# Altium footprint library AMP Footprints.PcbLib: 903 footprints (part 20 of 58)
Each footprint in its own frame and in the unit in brackets; x right, y up, seen from the top. Pads: shape width x height; smd on the part's side, far side on the other; paste and mask are expansions set on the pad; w line width, h text height; cw(c..) or ccw(c..) is an arc to the next point about the centre after c.
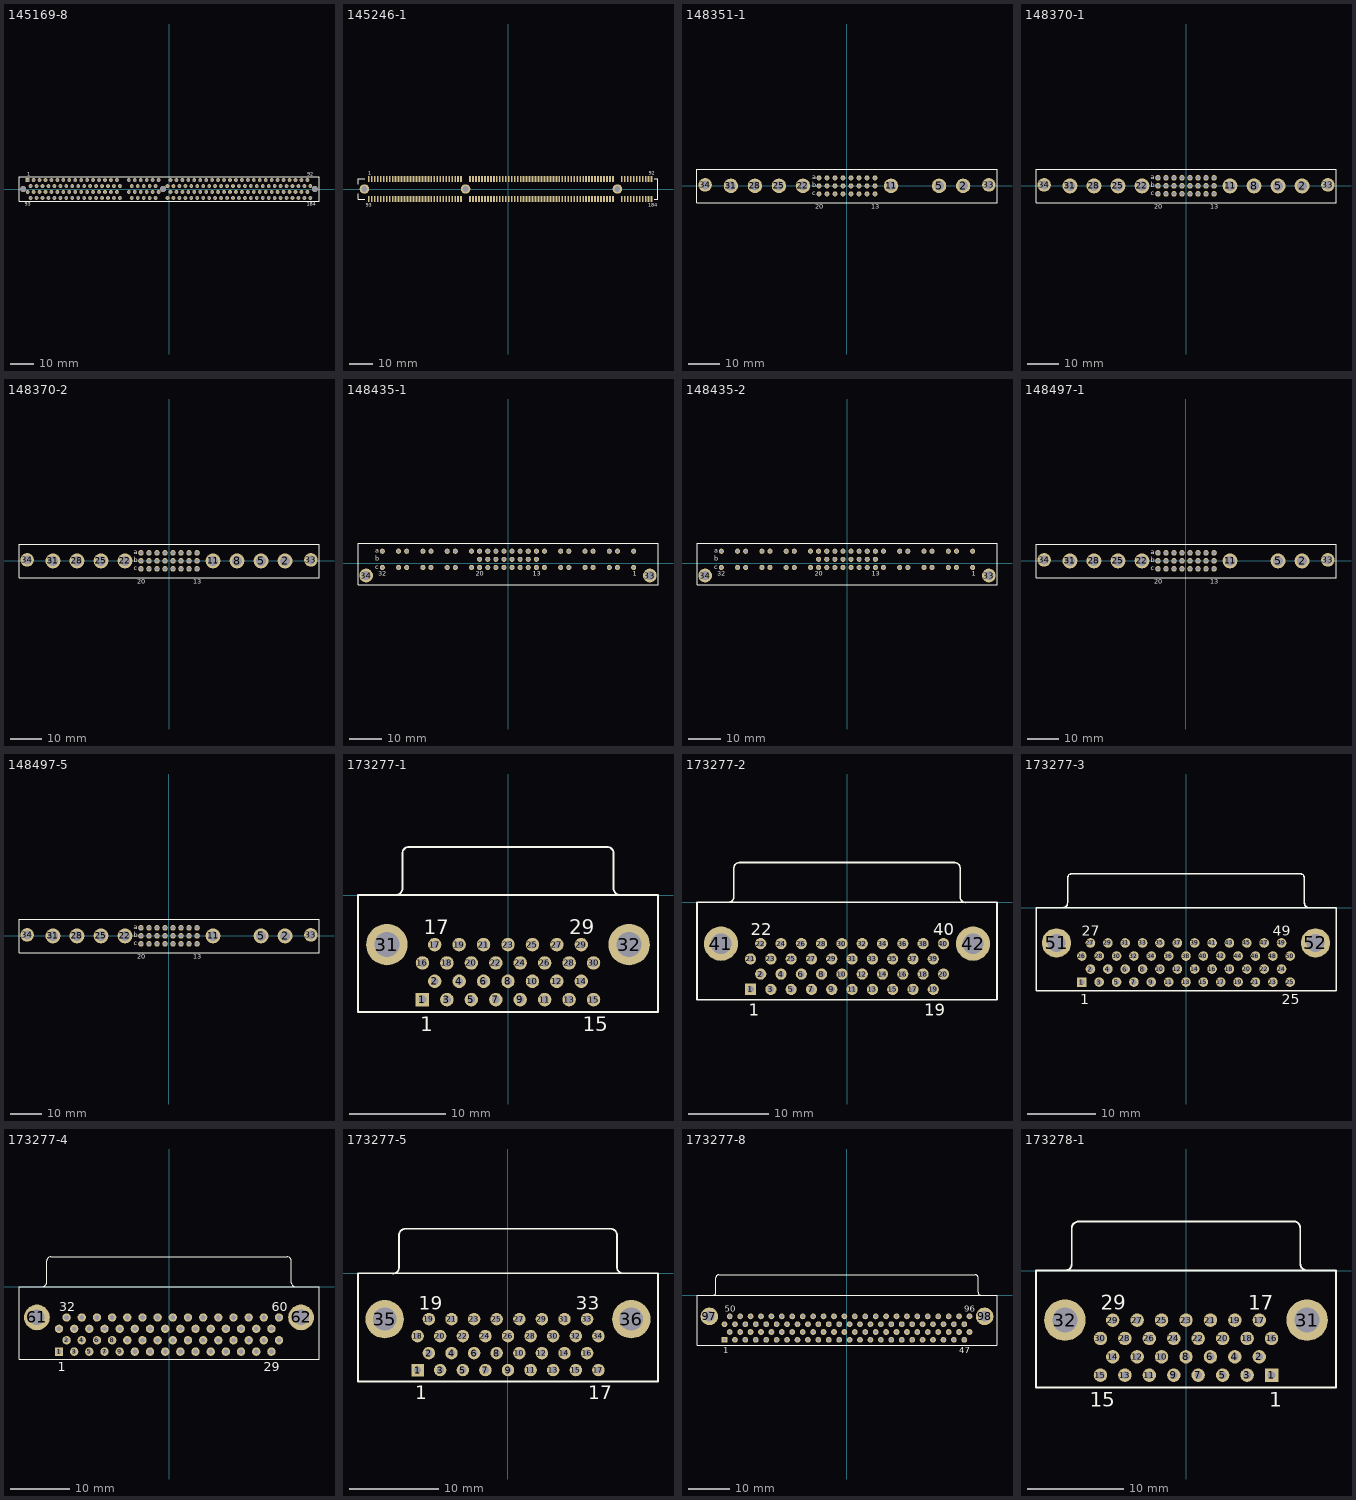
[diagram p19: the footprints below, top view; thin cyan lines are the x and y axes]

## 145169-8 [mm] "Connector; Card Edge .050 Series PCI; 2x92 Position; 64-Bit Bus"
height 15.74
pads (187):
  rect 1.62x1.62 hole 1.02: 1(-60.325,3.81)
  round 1.62 hole 1.02: 2(-59.055,1.27) 3(-57.785,3.81) 4(-56.515,1.27) 5(-55.245,3.81) 6(-53.975,1.27) 7(-52.705,3.81) 8(-51.435,1.27) 9(-50.165,3.81) 10(-48.895,1.27) 11(-47.625,3.81) 12(-46.355,1.27) 13(-45.085,3.81) 14(-43.815,1.27) 15(-42.545,3.81) 16(-41.275,1.27) 17(-40.005,3.81) 18(-38.735,1.27) 19(-37.465,3.81) 20(-36.195,1.27) 21(-34.925,3.81) 22(-33.655,1.27) 23(-32.385,3.81) 24(-31.115,1.27) 25(-29.845,3.81) 26(-28.575,1.27) 27(-27.305,3.81) 28(-26.035,1.27) 29(-24.765,3.81) 30(-23.495,1.27) 31(-22.225,3.81) 32(-20.955,1.27) 33(-17.145,3.81) 34(-15.875,1.27) 35(-14.605,3.81) 36(-13.335,1.27) 37(-12.065,3.81) 38(-10.795,1.27) 39(-9.525,3.81) 40(-8.255,1.27) 41(-6.985,3.81) 42(-5.715,1.27) 43(-4.445,3.81) 44(-0.635,1.27) 45(0.635,3.81) 46(1.905,1.27) 47(3.175,3.81) 48(4.445,1.27) 49(5.715,3.81) 50(6.985,1.27) 51(8.255,3.81) 52(9.525,1.27) 53(10.795,3.81) 54(12.065,1.27) 55(13.335,3.81) 56(14.605,1.27) 57(15.875,3.81) 58(17.145,1.27) 59(18.415,3.81) 60(19.685,1.27) 61(20.955,3.81) 62(22.225,1.27) 63(23.495,3.81) 64(24.765,1.27) 65(26.035,3.81) 66(27.305,1.27) 67(28.575,3.81) 68(29.845,1.27) 69(31.115,3.81) 70(32.385,1.27) 71(33.655,3.81) 72(34.925,1.27) 73(36.195,3.81) 74(37.465,1.27) 75(38.735,3.81) 76(40.005,1.27) 77(41.275,3.81) 78(42.545,1.27) 79(43.815,3.81) 80(45.085,1.27) 81(46.355,3.81) 82(47.625,1.27) 83(48.895,3.81) 84(50.165,1.27) 85(51.435,3.81) 86(52.705,1.27) 87(53.975,3.81) 88(55.245,1.27) 89(56.515,3.81) 90(57.785,1.27) 91(59.055,3.81) 92(60.325,1.27) 93(-60.325,-1.27) 94(-59.055,-3.81) 95(-57.785,-1.27) 96(-56.515,-3.81) 97(-55.245,-1.27) 98(-53.975,-3.81) 99(-52.705,-1.27) 100(-51.435,-3.81) 101(-50.165,-1.27) 102(-48.895,-3.81) 103(-47.625,-1.27) 104(-46.355,-3.81) 105(-45.085,-1.27) 106(-43.815,-3.81) 107(-42.545,-1.27) 108(-41.275,-3.81) 109(-40.005,-1.27) 110(-38.735,-3.81) 111(-37.465,-1.27) 112(-36.195,-3.81) 113(-34.925,-1.27) 114(-33.655,-3.81) 115(-32.385,-1.27) 116(-31.115,-3.81) 117(-29.845,-1.27) 118(-28.575,-3.81) 119(-27.305,-1.27) 120(-26.035,-3.81) 121(-24.765,-1.27) 122(-23.495,-3.81) 123(-22.225,-1.27) 124(-20.955,-3.81) 125(-17.145,-1.27) 126(-15.875,-3.81) 127(-14.605,-1.27) 128(-13.335,-3.81) 129(-12.065,-1.27) 130(-10.795,-3.81) 131(-9.525,-1.27) 132(-8.255,-3.81) 133(-6.985,-1.27) 134(-5.715,-3.81) 135(-4.445,-1.27) 136(-0.635,-3.81) 137(0.635,-1.27) 138(1.905,-3.81) 139(3.175,-1.27) 140(4.445,-3.81) 141(5.715,-1.27) 142(6.985,-3.81) 143(8.255,-1.27) 144(9.525,-3.81) 145(10.795,-1.27) 146(12.065,-3.81) 147(13.335,-1.27) 148(14.605,-3.81) 149(15.875,-1.27) 150(17.145,-3.81) 151(18.415,-1.27) 152(19.685,-3.81) 153(20.955,-1.27) 154(22.225,-3.81) 155(23.495,-1.27) 156(24.765,-3.81) 157(26.035,-1.27) 158(27.305,-3.81) 159(28.575,-1.27) 160(29.845,-3.81) 161(31.115,-1.27) 162(32.385,-3.81) 163(33.655,-1.27) 164(34.925,-3.81) 165(36.195,-1.27) 166(37.465,-3.81) 167(38.735,-1.27) 168(40.005,-3.81) 169(41.275,-1.27) 170(42.545,-3.81) 171(43.815,-1.27) 172(45.085,-3.81) 173(46.355,-1.27) 174(47.625,-3.81) 175(48.895,-1.27) 176(50.165,-3.81) 177(51.435,-1.27) 178(52.705,-3.81) 179(53.975,-1.27) 180(55.245,-3.81) 181(56.515,-1.27) 182(57.785,-3.81) 183(59.055,-1.27) 184(60.325,-3.81)
  round 2.56 hole 2.44: 185(-62.23,0) 186(-2.54,0) 187(62.23,0)
Top Overlay:
  lines w0.2: -64.01,-5.26 -64.01,5.26 64.01,5.26 64.01,-5.26 -64.01,-5.26
  text "1" at -60.575,5.735 h1.5
  text "93" at -61.575,-7.235 h1.5
  text "184" at 58.825,-7.235 h1.5
  text "92" at 59.075,5.735 h1.5

## 145246-1 [mil] "Connector; Card Edge .050 Series PCI; 2x92 Position; 64-Bit Bus"
height 619.68
pads (187):
  rect 30x105 smd: 1(-2337.5,170) 2(-2287.5,170) 3(-2237.5,170) 4(-2187.5,170) 5(-2137.5,170) 6(-2087.5,170) 7(-2037.5,170) 8(-1987.5,170) 9(-1937.5,170) 10(-1887.5,170) 11(-1837.5,170) 12(-1787.5,170) 13(-1737.5,170) 14(-1687.5,170) 15(-1637.5,170) 16(-1587.5,170) 17(-1537.5,170) 18(-1487.5,170) 19(-1437.5,170) 20(-1387.5,170) 21(-1337.5,170) 22(-1287.5,170) 23(-1237.5,170) 24(-1187.5,170) 25(-1137.5,170) 26(-1087.5,170) 27(-1037.5,170) 28(-987.5,170) 29(-937.5,170) 30(-887.5,170) 31(-837.5,170) 32(-787.5,170) 33(-637.5,170) 34(-587.5,170) 35(-537.5,170) 36(-487.5,170) 37(-437.5,170) 38(-387.5,170) 39(-337.5,170) 40(-287.5,170) 41(-237.5,170) 42(-187.5,170) 43(-137.5,170) 44(-87.5,170) 45(-37.5,170) 46(12.5,170) 47(62.5,170) 48(112.5,170) 49(162.5,170) 50(212.5,170) 51(262.5,170) 52(312.5,170) 53(362.5,170) 54(412.5,170) 55(462.5,170) 56(512.5,170) 57(562.5,170) 58(612.5,170) 59(662.5,170) 60(712.5,170) 61(762.5,170) 62(812.5,170) 63(862.5,170) 64(912.5,170) 65(962.5,170) 66(1012.5,170) 67(1062.5,170) 68(1112.5,170) 69(1162.5,170) 70(1212.5,170) 71(1262.5,170) 72(1312.5,170) 73(1362.5,170) 74(1412.5,170) 75(1462.5,170) 76(1512.5,170) 77(1562.5,170) 78(1612.5,170) 79(1662.5,170) 80(1712.5,170) 81(1762.5,170) 82(1912.5,170) 83(1962.5,170) 84(2012.5,170) 85(2062.5,170) 86(2112.5,170) 87(2162.5,170) 88(2212.5,170) 89(2262.5,170) 90(2312.5,170) 91(2362.5,170) 92(2412.5,170) 93(-2337.5,-170) 94(-2287.5,-170) 95(-2237.5,-170) 96(-2187.5,-170) 97(-2137.5,-170) 98(-2087.5,-170) 99(-2037.5,-170) 100(-1987.5,-170) 101(-1937.5,-170) 102(-1887.5,-170) 103(-1837.5,-170) 104(-1787.5,-170) 105(-1737.5,-170) 106(-1687.5,-170) 107(-1637.5,-170) 108(-1587.5,-170) 109(-1537.5,-170) 110(-1487.5,-170) 111(-1437.5,-170) 112(-1387.5,-170) 113(-1337.5,-170) 114(-1287.5,-170) 115(-1237.5,-170) 116(-1187.5,-170) 117(-1137.5,-170) 118(-1087.5,-170) 119(-1037.5,-170) 120(-987.5,-170) 121(-937.5,-170) 122(-887.5,-170) 123(-837.5,-170) 124(-787.5,-170) 125(-637.5,-170) 126(-587.5,-170) 127(-537.5,-170) 128(-487.5,-170) 129(-437.5,-170) 130(-387.5,-170) 131(-337.5,-170) 132(-287.5,-170) 133(-237.5,-170) 134(-187.5,-170) 135(-137.5,-170) 136(-87.5,-170) 137(-37.5,-170) 138(12.5,-170) 139(62.5,-170) 140(112.5,-170) 141(162.5,-170) 142(212.5,-170) 143(262.5,-170) 144(312.5,-170) 145(362.5,-170) 146(412.5,-170) 147(462.5,-170) 148(512.5,-170) 149(562.5,-170) 150(612.5,-170) 151(662.5,-170) 152(712.5,-170) 153(762.5,-170) 154(812.5,-170) 155(862.5,-170) 156(912.5,-170) 157(962.5,-170) 158(1012.5,-170) 159(1062.5,-170) 160(1112.5,-170) 161(1162.5,-170) 162(1212.5,-170) 163(1262.5,-170) 164(1312.5,-170) 165(1362.5,-170) 166(1412.5,-170) 167(1462.5,-170) 168(1512.5,-170) 169(1562.5,-170) 170(1612.5,-170) 171(1662.5,-170) 172(1712.5,-170) 173(1762.5,-170) 174(1912.5,-170) 175(1962.5,-170) 176(2012.5,-170) 177(2062.5,-170) 178(2112.5,-170) 179(2162.5,-170) 180(2212.5,-170) 181(2262.5,-170) 182(2312.5,-170) 183(2362.5,-170) 184(2412.5,-170)
  round 159.45 hole 96.06: 185(-2412.5,0) 186(-712.5,0) 187(1837.5,0)
Top Overlay:
  lines w7.87: -2519.68,-78.74 -2519.68,-175 -2403.44,-175 ; -2519.68,78.74 -2519.68,175 -2403.44,175 ; 2460.63,-175 2519.68,-175 2519.68,175 2460.63,175
  text "1" at -2347.34,237.26 h59.06
  text "93" at -2386.71,-296.32 h59.06
  text "92" at 2363.29,237.26 h59.06
  text "184" at 2353.44,-296.32 h59.06

## 148351-1 [mm] "Connector; CompactPCI; 24 Position; Vertical"
height 14.83
pads (33):
  round 4.6 hole 3: 2(36.83,0) 5(29.21,0) 11(13.97,0) 22(-13.97,0) 25(-21.59,0) 28(-29.21,0) 31(-36.83,0)
  round 4.3 hole 2.79: 33(45.01,0.3) 34(-45.01,0.3)
  round 1.6 hole 1: A13(8.89,2.54) A14(6.35,2.54) A15(3.81,2.54) A16(1.27,2.54) A17(-1.27,2.54) A18(-3.81,2.54) A19(-6.35,2.54) A20(-8.89,2.54) B13(8.89,0) B14(6.35,0) B15(3.81,0) B16(1.27,0) B17(-1.27,0) B18(-3.81,0) B19(-6.35,0) B20(-8.89,0) C13(8.89,-2.54) C14(6.35,-2.54) C15(3.81,-2.54) C16(1.27,-2.54) C17(-1.27,-2.54) C18(-3.81,-2.54) C19(-6.35,-2.54) C20(-8.89,-2.54)
Top Overlay:
  lines w0.2: -47.6,-5.3 47.6,-5.3 47.6,5.3 -47.6,5.3 -47.6,-5.3
  text "20" at -10.14,-7.275 h1.5
  text "13" at 7.765,-7.275 h1.5
  text "c" at -11.065,-3.04 h1.5
  text "b" at -11.065,-0.5 h1.5
  text "a" at -11.065,2.04 h1.5

## 148370-1 [mm] "Connector; CompactPCI; 24 Position; Vertical"
height 14.83
pads (34):
  round 4.73 hole 3.13: 2(36.83,0) 5(29.21,0) 8(21.59,0) 11(13.97,0) 22(-13.97,0) 25(-21.59,0) 28(-29.21,0) 31(-36.83,0)
  round 4.3 hole 2.79: 33(45.01,0.3) 34(-45.01,0.3)
  round 1.75 hole 1.15: A13(8.89,2.54) A14(6.35,2.54) A15(3.81,2.54) A16(1.27,2.54) A17(-1.27,2.54) A18(-3.81,2.54) A19(-6.35,2.54) A20(-8.89,2.54) B13(8.89,0) B14(6.35,0) B15(3.81,0) B16(1.27,0) B17(-1.27,0) B18(-3.81,0) B19(-6.35,0) B20(-8.89,0) C13(8.89,-2.54) C14(6.35,-2.54) C15(3.81,-2.54) C16(1.27,-2.54) C17(-1.27,-2.54) C18(-3.81,-2.54) C19(-6.35,-2.54) C20(-8.89,-2.54)
Top Overlay:
  lines w0.2: -47.6,-5.3 47.6,-5.3 47.6,5.3 -47.6,5.3 -47.6,-5.3
  text "a" at -11.14,2.04 h1.5
  text "b" at -11.14,-0.5 h1.5
  text "c" at -11.14,-3.04 h1.5
  text "13" at 7.765,-7.275 h1.5
  text "20" at -10.14,-7.275 h1.5

## 148370-2 [mm] "Connector; CompactPCI; 24 Position; Vertical"
height 14.83
pads (34):
  round 4.73 hole 3.13: 2(36.83,0) 5(29.21,0) 8(21.59,0) 11(13.97,0) 22(-13.97,0) 25(-21.59,0) 28(-29.21,0) 31(-36.83,0)
  round 4.3 hole 2.79: 33(45.01,0.3) 34(-45.01,0.3)
  round 1.75 hole 1.15: A13(8.89,2.54) A14(6.35,2.54) A15(3.81,2.54) A16(1.27,2.54) A17(-1.27,2.54) A18(-3.81,2.54) A19(-6.35,2.54) A20(-8.89,2.54) B13(8.89,0) B14(6.35,0) B15(3.81,0) B16(1.27,0) B17(-1.27,0) B18(-3.81,0) B19(-6.35,0) B20(-8.89,0) C13(8.89,-2.54) C14(6.35,-2.54) C15(3.81,-2.54) C16(1.27,-2.54) C17(-1.27,-2.54) C18(-3.81,-2.54) C19(-6.35,-2.54) C20(-8.89,-2.54)
Top Overlay:
  lines w0.2: -47.6,-5.3 47.6,-5.3 47.6,5.3 -47.6,5.3 -47.6,-5.3
  text "a" at -11.14,2.04 h1.5
  text "b" at -11.14,-0.5 h1.5
  text "c" at -11.14,-3.04 h1.5
  text "13" at 7.765,-7.275 h1.5
  text "20" at -10.14,-7.275 h1.5

## 148435-1 [mm] "Connector; CompactPCI; 24 Position; Right Angle"
height 11.1
pads (58):
  round 4.3 hole 2.79: 33(44.45,-3.81) 34(-44.45,-3.81)
  round 1.6 hole 1: A1(39.37,3.81) A3(34.29,3.81) A4(31.75,3.81) A6(26.67,3.81) A7(24.13,3.81) A9(19.05,3.81) A10(16.51,3.81) A12(11.43,3.81) A13(8.89,3.81) A14(6.35,3.81) A15(3.81,3.81) A16(1.27,3.81) A17(-1.27,3.81) A18(-3.81,3.81) A19(-6.35,3.81) A20(-8.89,3.81) A21(-11.43,3.81) A23(-16.51,3.81) A24(-19.05,3.81) A26(-24.13,3.81) A27(-26.67,3.81) A29(-31.75,3.81) A30(-34.29,3.81) A32(-39.37,3.81) B13(8.89,1.27) B14(6.35,1.27) B15(3.81,1.27) B16(1.27,1.27) B17(-1.27,1.27) B18(-3.81,1.27) B19(-6.35,1.27) B20(-8.89,1.27) C1(39.37,-1.27) C3(34.29,-1.27) C4(31.75,-1.27) C6(26.67,-1.27) C7(24.13,-1.27) C9(19.05,-1.27) C10(16.51,-1.27) C12(11.43,-1.27) C13(8.89,-1.27) C14(6.35,-1.27) C15(3.81,-1.27) C16(1.27,-1.27) C17(-1.27,-1.27) C18(-3.81,-1.27) C19(-6.35,-1.27) C20(-8.89,-1.27) C21(-11.43,-1.27) C23(-16.51,-1.27) C24(-19.05,-1.27) C26(-24.13,-1.27) C27(-26.67,-1.27) C29(-31.75,-1.27) C30(-34.29,-1.27) C32(-39.37,-1.27)
Top Overlay:
  lines w0.2: -47,-6.68 -47,6.29 47,6.29 47,-6.68 -47,-6.68
  text "20" at -10.14,-3.945 h1.5
  text "13" at 7.765,-3.945 h1.5
  text "32" at -40.62,-3.945 h1.5
  text "c" at -41.545,-1.77 h1.5
  text "b" at -41.545,0.77 h1.5
  text "a" at -41.545,3.31 h1.5
  text "1" at 39.12,-3.945 h1.5

## 148435-2 [mm] "Connector; CompactPCI; 24 Position; Right Angle"
height 11.1
pads (58):
  round 4.3 hole 2.79: 33(44.45,-3.81) 34(-44.45,-3.81)
  round 1.6 hole 1: A1(39.37,3.81) A3(34.29,3.81) A4(31.75,3.81) A6(26.67,3.81) A7(24.13,3.81) A9(19.05,3.81) A10(16.51,3.81) A12(11.43,3.81) A13(8.89,3.81) A14(6.35,3.81) A15(3.81,3.81) A16(1.27,3.81) A17(-1.27,3.81) A18(-3.81,3.81) A19(-6.35,3.81) A20(-8.89,3.81) A21(-11.43,3.81) A23(-16.51,3.81) A24(-19.05,3.81) A26(-24.13,3.81) A27(-26.67,3.81) A29(-31.75,3.81) A30(-34.29,3.81) A32(-39.37,3.81) B13(8.89,1.27) B14(6.35,1.27) B15(3.81,1.27) B16(1.27,1.27) B17(-1.27,1.27) B18(-3.81,1.27) B19(-6.35,1.27) B20(-8.89,1.27) C1(39.37,-1.27) C3(34.29,-1.27) C4(31.75,-1.27) C6(26.67,-1.27) C7(24.13,-1.27) C9(19.05,-1.27) C10(16.51,-1.27) C12(11.43,-1.27) C13(8.89,-1.27) C14(6.35,-1.27) C15(3.81,-1.27) C16(1.27,-1.27) C17(-1.27,-1.27) C18(-3.81,-1.27) C19(-6.35,-1.27) C20(-8.89,-1.27) C21(-11.43,-1.27) C23(-16.51,-1.27) C24(-19.05,-1.27) C26(-24.13,-1.27) C27(-26.67,-1.27) C29(-31.75,-1.27) C30(-34.29,-1.27) C32(-39.37,-1.27)
Top Overlay:
  lines w0.2: -47,-6.68 -47,6.29 47,6.29 47,-6.68 -47,-6.68
  text "20" at -10.14,-3.945 h1.5
  text "13" at 7.765,-3.945 h1.5
  text "32" at -40.62,-3.945 h1.5
  text "c" at -41.545,-1.77 h1.5
  text "b" at -41.545,0.77 h1.5
  text "a" at -41.545,3.31 h1.5
  text "1" at 39.12,-3.945 h1.5

## 148497-1 [mm] "Connector; CompactPCI; 24 Position; Vertical"
height 12.6
pads (33):
  round 4.73 hole 3.13: 2(36.83,0) 5(29.21,0) 11(13.97,0) 22(-13.97,0) 25(-21.59,0) 28(-29.21,0) 31(-36.83,0)
  round 4.3 hole 2.79: 33(45.01,0.3) 34(-45.01,0.3)
  round 1.75 hole 1.15: A13(8.89,2.54) A14(6.35,2.54) A15(3.81,2.54) A16(1.27,2.54) A17(-1.27,2.54) A18(-3.81,2.54) A19(-6.35,2.54) A20(-8.89,2.54) B13(8.89,0) B14(6.35,0) B15(3.81,0) B16(1.27,0) B17(-1.27,0) B18(-3.81,0) B19(-6.35,0) B20(-8.89,0) C13(8.89,-2.54) C14(6.35,-2.54) C15(3.81,-2.54) C16(1.27,-2.54) C17(-1.27,-2.54) C18(-3.81,-2.54) C19(-6.35,-2.54) C20(-8.89,-2.54)
Top Overlay:
  lines w0.2: -47.6,-5.3 47.6,-5.3 47.6,5.3 -47.6,5.3 -47.6,-5.3
  text "20" at -10.14,-7.275 h1.5
  text "13" at 7.765,-7.275 h1.5
  text "c" at -11.14,-3.04 h1.5
  text "b" at -11.14,-0.5 h1.5
  text "a" at -11.14,2.04 h1.5

## 148497-5 [mm] "Connector; CompactPCI; 24 Position; Vertical"
height 12.6
pads (33):
  round 4.73 hole 3.13: 2(36.83,0) 5(29.21,0) 11(13.97,0) 22(-13.97,0) 25(-21.59,0) 28(-29.21,0) 31(-36.83,0)
  round 4.3 hole 2.79: 33(45.01,0.3) 34(-45.01,0.3)
  round 1.75 hole 1.15: A13(8.89,2.54) A14(6.35,2.54) A15(3.81,2.54) A16(1.27,2.54) A17(-1.27,2.54) A18(-3.81,2.54) A19(-6.35,2.54) A20(-8.89,2.54) B13(8.89,0) B14(6.35,0) B15(3.81,0) B16(1.27,0) B17(-1.27,0) B18(-3.81,0) B19(-6.35,0) B20(-8.89,0) C13(8.89,-2.54) C14(6.35,-2.54) C15(3.81,-2.54) C16(1.27,-2.54) C17(-1.27,-2.54) C18(-3.81,-2.54) C19(-6.35,-2.54) C20(-8.89,-2.54)
Top Overlay:
  lines w0.2: -47.6,-5.3 47.6,-5.3 47.6,5.3 -47.6,5.3 -47.6,-5.3
  text "20" at -10.14,-7.275 h1.5
  text "13" at 7.765,-7.275 h1.5
  text "c" at -11.14,-3.04 h1.5
  text "b" at -11.14,-0.5 h1.5
  text "a" at -11.14,2.04 h1.5

## 173277-1 [mm] "Connector; D Subminiature 050 Series; 30 Position; Right Angle"
height 8.1
pads (32):
  rect 1.4x1.4 hole 0.8: 1(-8.89,-10.87)
  round 1.4 hole 0.8: 2(-7.62,-8.965) 3(-6.35,-10.87) 4(-5.08,-8.965) 5(-3.81,-10.87) 6(-2.54,-8.965) 7(-1.27,-10.87) 8(0,-8.965) 9(1.27,-10.87) 10(2.54,-8.965) 11(3.81,-10.87) 12(5.08,-8.965) 13(6.35,-10.87) 14(7.62,-8.965) 15(8.89,-10.87) 16(-8.89,-7.06) 17(-7.62,-5.155) 18(-6.35,-7.06) 19(-5.08,-5.155) 20(-3.81,-7.06) 21(-2.54,-5.155) 22(-1.27,-7.06) 23(0,-5.155) 24(1.27,-7.06) 25(2.54,-5.155) 26(3.81,-7.06) 27(5.08,-5.155) 28(6.35,-7.06) 29(7.62,-5.155) 30(8.89,-7.06)
  round 4.3 hole 2.6: 31(-12.59,-5.155) 32(12.59,-5.155)
Top Overlay:
  lines w0.2: -11.67,0 ccw(c-11.67,0.695) -10.975,0.695 ; -10.975,0.715 -10.975,4.305 cw(c-10.28,4.305) -10.28,5 10.28,5 cw(c10.28,4.305) 10.975,4.305 ; 10.975,4.495 10.975,0.695 ccw(c11.67,0.695) 11.67,0 ; -15.59,-12.17 -15.59,0 15.59,0 15.59,-12.17 -15.59,-12.17
  text "17" at -8.745,-4.08 h1.5
  text "29" at 6.37,-4.08 h1.5
  text "1" at -9.14,-14.145 h1.5
  text "15" at 7.765,-14.145 h1.5

## 173277-2 [mm] "Connector; D Subminiature 050 Series; 40 Position; Right Angle"
height 8.1
pads (42):
  rect 1.4x1.4 hole 0.8: 1(-12.065,-10.87)
  round 1.4 hole 0.8: 2(-10.795,-8.965) 3(-9.525,-10.87) 4(-8.255,-8.965) 5(-6.985,-10.87) 6(-5.715,-8.965) 7(-4.445,-10.87) 8(-3.175,-8.965) 9(-1.905,-10.87) 10(-0.635,-8.965) 11(0.635,-10.87) 12(1.905,-8.965) 13(3.175,-10.87) 14(4.445,-8.965) 15(5.715,-10.87) 16(6.985,-8.965) 17(8.255,-10.87) 18(9.525,-8.965) 19(10.795,-10.87) 20(12.065,-8.965) 21(-12.065,-7.06) 22(-10.795,-5.155) 23(-9.525,-7.06) 24(-8.255,-5.155) 25(-6.985,-7.06) 26(-5.715,-5.155) 27(-4.445,-7.06) 28(-3.175,-5.155) 29(-1.905,-7.06) 30(-0.635,-5.155) 31(0.635,-7.06) 32(1.905,-5.155) 33(3.175,-7.06) 34(4.445,-5.155) 35(5.715,-7.06) 36(6.985,-5.155) 37(8.255,-7.06) 38(9.525,-5.155) 39(10.795,-7.06) 40(12.065,-5.155)
  round 4.3 hole 2.6: 41(-15.765,-5.155) 42(15.765,-5.155)
Top Overlay:
  lines w0.2: -14.845,0.02 ccw(c-14.845,0.715) -14.15,0.715 -14.15,4.305 cw(c-13.455,4.305) -13.455,5 ; -13.5,5 13.5,5 ; 13.455,5 cw(c13.455,4.305) 14.15,4.305 14.15,0.687 ccw(c14.845,0.687) 14.845,-0.008 ; -18.765,-12.17 -18.765,0 18.765,0 18.765,-12.17 -18.765,-12.17
  text "19" at 9.67,-14.145 h1.5
  text "1" at -12.315,-14.145 h1.5
  text "22" at -12.045,-4.08 h1.5
  text "40" at 10.815,-4.08 h1.5

## 173277-3 [mm] "Connector; D Subminiature 050 Series; 50 Position; Right Angle"
height 8.1
pads (52):
  rect 1.4x1.4 hole 0.8: 1(-15.24,-10.87)
  round 1.4 hole 0.8: 2(-13.97,-8.965) 3(-12.7,-10.87) 4(-11.43,-8.965) 5(-10.16,-10.87) 6(-8.89,-8.965) 7(-7.62,-10.87) 8(-6.35,-8.965) 9(-5.08,-10.87) 10(-3.81,-8.965) 11(-2.54,-10.87) 12(-1.27,-8.965) 13(0,-10.87) 14(1.27,-8.965) 15(2.54,-10.87) 16(3.81,-8.965) 17(5.08,-10.87) 18(6.35,-8.965) 19(7.62,-10.87) 20(8.89,-8.965) 21(10.16,-10.87) 22(11.43,-8.965) 23(12.7,-10.87) 24(13.97,-8.965) 25(15.24,-10.87) 26(-15.24,-7.06) 27(-13.97,-5.155) 28(-12.7,-7.06) 29(-11.43,-5.155) 30(-10.16,-7.06) 31(-8.89,-5.155) 32(-7.62,-7.06) 33(-6.35,-5.155) 34(-5.08,-7.06) 35(-3.81,-5.155) 36(-2.54,-7.06) 37(-1.27,-5.155) 38(0,-7.06) 39(1.27,-5.155) 40(2.54,-7.06) 41(3.81,-5.155) 42(5.08,-7.06) 43(6.35,-5.155) 44(7.62,-7.06) 45(8.89,-5.155) 46(10.16,-7.06) 47(11.43,-5.155) 48(12.7,-7.06) 49(13.97,-5.155) 50(15.24,-7.06)
  round 4.3 hole 2.6: 51(-18.94,-5.155) 52(18.94,-5.155)
Top Overlay:
  lines w0.2: -18.02,0.02 ccw(c-18.02,0.715) -17.325,0.715 -17.325,4.305 cw(c-16.63,4.305) -16.63,5 16.68,5 ; 16.63,5 cw(c16.63,4.305) 17.325,4.305 17.325,0.687 ccw(c18.02,0.687) 18.02,-0.008 ; -21.94,-12.17 21.94,-12.17 21.94,0 -21.94,0 -21.94,-12.17
  text "25" at 13.99,-14.145 h1.5
  text "1" at -15.49,-14.145 h1.5
  text "49" at 12.72,-4.08 h1.5
  text "27" at -15.22,-4.08 h1.5

## 173277-4 [mm] "Connector; D Subminiature 050 Series; 60 Position; Right Angle"
height 8.1
pads (62):
  rect 1.4x1.4 hole 0.8: 1(-18.415,-10.87)
  round 1.4 hole 0.8: 2(-17.145,-8.965) 3(-15.875,-10.87) 4(-14.605,-8.965) 5(-13.335,-10.87) 6(-12.065,-8.965) 7(-10.795,-10.87) 8(-9.525,-8.965) 9(-8.255,-10.87) 10(-6.985,-8.965) 11(-5.715,-10.87) 12(-4.445,-8.965) 13(-3.175,-10.87) 14(-1.905,-8.965) 15(-0.635,-10.87) 16(0.635,-8.965) 17(1.905,-10.87) 18(3.175,-8.965) 19(4.445,-10.87) 20(5.715,-8.965) 21(6.985,-10.87) 22(8.255,-8.965) 23(9.525,-10.87) 24(10.795,-8.965) 25(12.065,-10.87) 26(13.335,-8.965) 27(14.605,-10.87) 28(15.875,-8.965) 29(17.145,-10.87) 30(18.415,-8.965) 31(-18.415,-7.06) 32(-17.145,-5.155) 33(-15.875,-7.06) 34(-14.605,-5.155) 35(-13.335,-7.06) 36(-12.065,-5.155) 37(-10.795,-7.06) 38(-9.525,-5.155) 39(-8.255,-7.06) 40(-6.985,-5.155) 41(-5.715,-7.06) 42(-4.445,-5.155) 43(-3.175,-7.06) 44(-1.905,-5.155) 45(-0.635,-7.06) 46(0.635,-5.155) 47(1.905,-7.06) 48(3.175,-5.155) 49(4.445,-7.06) 50(5.715,-5.155) 51(6.985,-7.06) 52(8.255,-5.155) 53(9.525,-7.06) 54(10.795,-5.155) 55(12.065,-7.06) 56(13.335,-5.155) 57(14.605,-7.06) 58(15.875,-5.155) 59(17.145,-7.06) 60(18.415,-5.155)
  round 4.3 hole 2.6: 61(-22.115,-5.155) 62(22.115,-5.155)
Top Overlay:
  lines w0.2: -21.195,0.02 ccw(c-21.195,0.715) -20.5,0.715 -20.5,4.305 cw(c-19.805,4.305) -19.805,5 19.805,5 cw(c19.805,4.305) 20.5,4.305 20.5,0.687 ccw(c21.195,0.687) 21.195,-0.008 ; -25.115,-12.17 -25.115,0 25.115,0 25.115,-12.17 -25.115,-12.17
  text "32" at -18.395,-4.08 h1.5
  text "1" at -18.665,-14.145 h1.5
  text "29" at 15.895,-14.145 h1.5
  text "60" at 17.165,-4.08 h1.5

## 173277-5 [mm] "Connector; D Subminiature 050 Series; 34 Position; Right Angle"
height 8.1
pads (36):
  rect 1.4x1.4 hole 0.8: 1(-10.16,-10.87)
  round 1.4 hole 0.8: 2(-8.89,-8.965) 3(-7.62,-10.87) 4(-6.35,-8.965) 5(-5.08,-10.87) 6(-3.81,-8.965) 7(-2.54,-10.87) 8(-1.27,-8.965) 9(0,-10.87) 10(1.27,-8.965) 11(2.54,-10.87) 12(3.81,-8.965) 13(5.08,-10.87) 14(6.35,-8.965) 15(7.62,-10.87) 16(8.89,-8.965) 17(10.16,-10.87) 18(-10.16,-7.06) 19(-8.89,-5.155) 20(-7.62,-7.06) 21(-6.35,-5.155) 22(-5.08,-7.06) 23(-3.81,-5.155) 24(-2.54,-7.06) 25(-1.27,-5.155) 26(0,-7.06) 27(1.27,-5.155) 28(2.54,-7.06) 29(3.81,-5.155) 30(5.08,-7.06) 31(6.35,-5.155) 32(7.62,-7.06) 33(8.89,-5.155) 34(10.16,-7.06)
  round 4.3 hole 2.6: 35(-13.86,-5.155) 36(13.86,-5.155)
Top Overlay:
  lines w0.2: -12.94,-0.02 ccw(c-12.94,0.675) -12.245,0.675 -12.245,4.305 cw(c-11.55,4.305) -11.55,5 11.5,5 ; 11.55,5 cw(c11.55,4.305) 12.245,4.305 12.245,0.695 ccw(c12.94,0.695) 12.94,0 ; -16.86,-12.17 -16.86,0 16.86,0 16.86,-12.17 -16.86,-12.17
  text "17" at 9.035,-14.145 h1.5
  text "1" at -10.41,-14.145 h1.5
  text "33" at 7.64,-4.08 h1.5
  text "19" at -10.015,-4.08 h1.5

## 173277-8 [mm] "Connector; D Subminiature 050 Series; 96 Position; Right Angle"
height 8.1
pads (98):
  rect 1.4x1.4 hole 0.8: 1(-29.845,-10.87)
  round 1.4 hole 0.8: 2(-28.575,-8.965) 3(-27.305,-10.87) 4(-26.035,-8.965) 5(-24.765,-10.87) 6(-23.495,-8.965) 7(-22.225,-10.87) 8(-20.955,-8.965) 9(-19.685,-10.87) 10(-18.415,-8.965) 11(-17.145,-10.87) 12(-15.875,-8.965) 13(-14.605,-10.87) 14(-13.335,-8.965) 15(-12.065,-10.87) 16(-10.795,-8.965) 17(-9.525,-10.87) 18(-8.255,-8.965) 19(-6.985,-10.87) 20(-5.715,-8.965) 21(-4.445,-10.87) 22(-3.175,-8.965) 23(-1.905,-10.87) 24(-0.635,-8.965) 25(0.635,-10.87) 26(1.905,-8.965) 27(3.175,-10.87) 28(4.445,-8.965) 29(5.715,-10.87) 30(6.985,-8.965) 31(8.255,-10.87) 32(9.525,-8.965) 33(10.795,-10.87) 34(12.065,-8.965) 35(13.335,-10.87) 36(14.605,-8.965) 37(15.875,-10.87) 38(17.145,-8.965) 39(18.415,-10.87) 40(19.685,-8.965) 41(20.955,-10.87) 42(22.225,-8.965) 43(23.495,-10.87) 44(24.765,-8.965) 45(26.035,-10.87) 46(27.305,-8.965) 47(28.575,-10.87) 48(29.845,-8.965) 49(-29.845,-7.06) 50(-28.575,-5.155) 51(-27.305,-7.06) 52(-26.035,-5.155) 53(-24.765,-7.06) 54(-23.495,-5.155) 55(-22.225,-7.06) 56(-20.955,-5.155) 57(-19.685,-7.06) 58(-18.415,-5.155) 59(-17.145,-7.06) 60(-15.875,-5.155) 61(-14.605,-7.06) 62(-13.335,-5.155) 63(-12.065,-7.06) 64(-10.795,-5.155) 65(-9.525,-7.06) 66(-8.255,-5.155) 67(-6.985,-7.06) 68(-5.715,-5.155) 69(-4.445,-7.06) 70(-3.175,-5.155) 71(-1.905,-7.06) 72(-0.635,-5.155) 73(0.635,-7.06) 74(1.905,-5.155) 75(3.175,-7.06) 76(4.445,-5.155) 77(5.715,-7.06) 78(6.985,-5.155) 79(8.255,-7.06) 80(9.525,-5.155) 81(10.795,-7.06) 82(12.065,-5.155) 83(13.335,-7.06) 84(14.605,-5.155) 85(15.875,-7.06) 86(17.145,-5.155) 87(18.415,-7.06) 88(19.685,-5.155) 89(20.955,-7.06) 90(22.225,-5.155) 91(23.495,-7.06) 92(24.765,-5.155) 93(26.035,-7.06) 94(27.305,-5.155) 95(28.575,-7.06) 96(29.845,-5.155)
  round 4.3 hole 2.6: 97(-33.545,-5.155) 98(33.545,-5.155)
Top Overlay:
  lines w0.2: -32.625,0.002 ccw(c-32.625,0.697) -31.93,0.697 -31.93,4.305 cw(c-31.235,4.305) -31.235,5 31.3,5 ; 31.235,5 cw(c31.235,4.305) 31.93,4.305 31.93,0.7 ccw(c32.625,0.7) 32.625,0.005 ; -36.545,-12.17 -36.545,0 36.545,0 36.545,-12.17 -36.545,-12.17
  text "50" at -29.825,-4.08 h1.5
  text "96" at 28.595,-4.08 h1.5
  text "47" at 27.325,-14.145 h1.5
  text "1" at -30.095,-14.145 h1.5

## 173278-1 [mm] "Connector; D Subminiature 050 Series; 30 Position; Right Angle"
height 8.1
pads (32):
  rect 1.4x1.4 hole 0.8: 1(8.89,-10.87)
  round 1.4 hole 0.8: 2(7.62,-8.965) 3(6.35,-10.87) 4(5.08,-8.965) 5(3.81,-10.87) 6(2.54,-8.965) 7(1.27,-10.87) 8(0,-8.965) 9(-1.27,-10.87) 10(-2.54,-8.965) 11(-3.81,-10.87) 12(-5.08,-8.965) 13(-6.35,-10.87) 14(-7.62,-8.965) 15(-8.89,-10.87) 16(8.89,-7.06) 17(7.62,-5.155) 18(6.35,-7.06) 19(5.08,-5.155) 20(3.81,-7.06) 21(2.54,-5.155) 22(1.27,-7.06) 23(0,-5.155) 24(-1.27,-7.06) 25(-2.54,-5.155) 26(-3.81,-7.06) 27(-5.08,-5.155) 28(-6.35,-7.06) 29(-7.62,-5.155) 30(-8.89,-7.06)
  round 4.3 hole 2.6: 31(12.59,-5.155) 32(-12.59,-5.155)
Top Overlay:
  lines w0.2: -12.57,0 ccw(c-12.57,0.695) -11.875,0.695 -11.875,4.395 cw(c-11.18,4.395) -11.18,5.09 ; -11.18,5.1 11.185,5.1 ; 11.18,5.11 cw(c11.18,4.415) 11.875,4.415 11.875,0.715 ccw(c12.57,0.715) 12.57,0.02 ; -15.59,-12.17 15.59,-12.17 15.59,0 -15.59,0 -15.59,-12.17
  text "15" at -10.015,-14.145 h1.5
  text "1" at 8.64,-14.145 h1.5
  text "29" at -8.87,-4.08 h1.5
  text "17" at 6.495,-4.08 h1.5